# Altium schematic symbol library Other.SchLib: 11 symbols
Pins are listed as number, name and electrical type; pins without a type are passive.

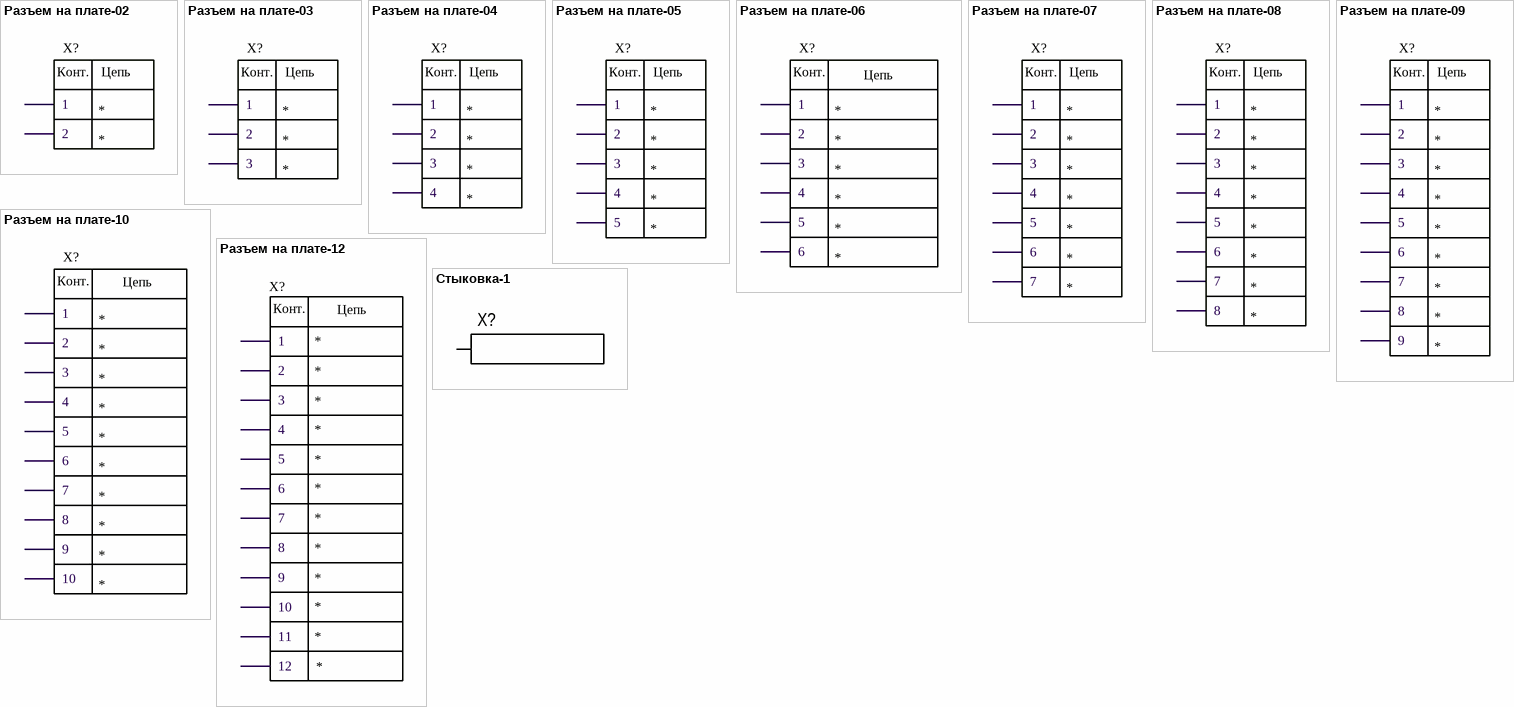
[diagram p0: symbols Разъем на плате-02 to Стыковка-1]

## Разъем на плате-02
designator X?
Name: Разъем; Value: *; Конт.1: *; Конт.2: *
footprint Hd1xD2x2x5mm
pins: 1 "Вход", 2 "Вход"
text: Конт.; Цепь

## Разъем на плате-03
designator X?
Name: Разъем; Value: *; Конт.1: *; Конт.2: *; Конт.3: *
pins: 1 "Вход", 2 "Вход", 3 "Вход"
text: Конт.; Цепь

## Разъем на плате-04
designator X?
Name: Разъем; Value: *; Конт.1: *; Конт.2: *; Конт.3: *; Конт.4: *
footprint HD0.6xD1x4x1.4
pins: 1 "Вход", 2 "Вход", 3 "Вход", 4 "Вход"
text: Конт.; Цепь

## Разъем на плате-05
designator X?
Name: Разъем; Value: *; Конт.1: *; Конт.2: *; Конт.3: *; Конт.4: *; Конт.5: *
footprint Hd1xD2xH3.5x5x5mm
pins: 1 "Вход", 2 "Вход", 3 "Вход", 4 "Вход", 5 "Вход"
text: Конт.; Цепь

## Разъем на плате-06
designator X?
Name: Разъем; Value: *; Конт.1: *; Конт.2: *; Конт.3: *; Конт.4: *; Конт.5: *; Конт.6: *
footprint Hd1xD2xH3.5x6x5mm
footprint Датчик ПАЭ-1
footprint Датчик ПАЭ-2
pins: 1 "Вход", 2 "Вход", 3 "Вход", 4 "Вход", 5 "Вход", 6 "Вход"
text: Цепь; Конт.

## Разъем на плате-07
designator X?
Name: Разъем; Value: *; Конт.1: *; Конт.2: *; Конт.3: *; Конт.4: *; Конт.5: *; Конт.6: *; Конт.7: *
pins: 1 "Вход", 2 "Вход", 3 "Вход", 4 "Вход", 5 "Вход", 6 "Вход", 7 "Вход"
text: Конт.; Цепь

## Разъем на плате-08
designator X?
Name: Разъем; Value: *; Конт.1: *; Конт.2: *; Конт.3: *; Конт.4: *; Конт.5: *; Конт.6: *; Конт.7: *; Конт.8: *
footprint Hd1xD2xH3.5x8x5mm
pins: 1 "Вход", 2 "Вход", 3 "Вход", 4 "Вход", 5 "Вход", 6 "Вход", 7 "Вход", 8 "Вход"
text: Конт.; Цепь

## Разъем на плате-09
designator X?
Name: Разъем; Value: *; Конт.1: *; Конт.2: *; Конт.3: *; Конт.4: *; Конт.5: *; Конт.6: *; Конт.7: *; Конт.8: *; Конт.9: *
pins: 1 "Вход", 2 "Вход", 3 "Вход", 4 "Вход", 5 "Вход", 6 "Вход", 7 "Вход", 8 "Вход", 9 "Вход"
text: Конт.; Цепь

## Разъем на плате-10
designator X?
Name: Разъем; Case: *; HelpURL: *; Manufacture: *; Model: *; Value: *; Конт.10: *; Конт.1: *; Конт.2: *; Конт.3: *; Конт.4: *; Конт.5: *; Конт.6: *; Конт.7: *; Конт.8: *; Конт.9: *
footprint Hd1xD2xH3.5x10x5mm
pins: 1 "Вход", 2 "Вход", 3 "Вход", 4 "Вход", 5 "Вход", 6 "Вход", 7 "Вход", 8 "Вход", 9 "Вход", 10 "Вход"
text: Конт.; Цепь

## Разъем на плате-12
designator X?
Name: Разъем; Case: *; HelpURL: *; Manufacture: *; Model: *; Value: *; Конт.12: *; Конт.9: *; Конт.8: *; Конт.7: *; Конт.6: *; Конт.5: *; Конт.4: *; Конт.3: *; Конт.2: *; Конт.1: *; Конт.10: *; Конт.11: *
pins: 1 "Вход", 2 "Вход", 3 "Вход", 4 "Вход", 5 "Вход", 6 "Вход", 7 "Вход", 8 "Вход", 9 "Вход", 10 "Вход", 11 "Вход", 12 "Вход"
text: Конт.; Цепь

## Стыковка-1
designator X?  (value not drawn)
Связь: *
footprint Стыковка
footprint Провод с наконечником
pins: 1